# Altium schematic symbol library TPS22917DBVR.SchLib: 1 symbol
Pins are listed as number, name and electrical type; pins without a type are passive.

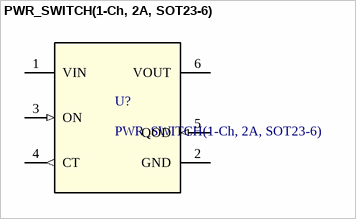
[diagram p0: symbol PWR_SWITCH(1-Ch, 2A, SOT23-6)]

## PWR_SWITCH(1-Ch, 2A, SOT23-6)
designator U?
5.5-V, 2-A, 80-mÎ© , 10-nA leakage load switch adj. rise time and adj output discharge 6-SOT-23 -40 to 125; Manufacturer: Texas Instruments; Manufacturer_PN: TPS22917DBVR; Package: SOT-23-6; Datasheet: https://www.ti.com/lit/ds/symlink/tps22917.pdf?HQS=dis-dk-null-digikeymode-dsf-pf-null-wwe&ts=1763957839731&ref_url=https%253A%252F%252Fwww.ti.com%252Fgeneral%252Fdocs%252Fsuppproductinfo.tsp%253FdistId%253D10%2526gotoUrl%253Dhttps%253A%252F%252Fwww.ti.com%252Flit%252Fgpn%252Ftps22917; Digikey_Link: https://www.digikey.it/en/products/detail/texas-instruments/TPS22917DBVR/8539916?s=N4IgTCBcDaICoAUDKYwE4CMB2AIgIQDUAlEAXQF8g
footprint DBV0006_L
pins: 1 VIN (power), 2 GND (power), 3 ON (in), 4 CT (out), 5 QOD (in), 6 VOUT (power)